# Altium schematic symbol library Screw.Schlib: 1 symbol
Pins are listed as number, name and electrical type; pins without a type are passive.

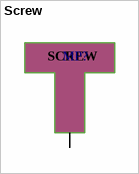
[diagram p0: symbol Screw]

## Screw
designator MP?  (no BOM)
pins: 1
text: SCREW